# EAGLE library part ADG659 (library analog-devices)
+3 V/+5 V/±5 V CMOS 4-Channel Analog Multiplexers Source: ADG658_659.pdf
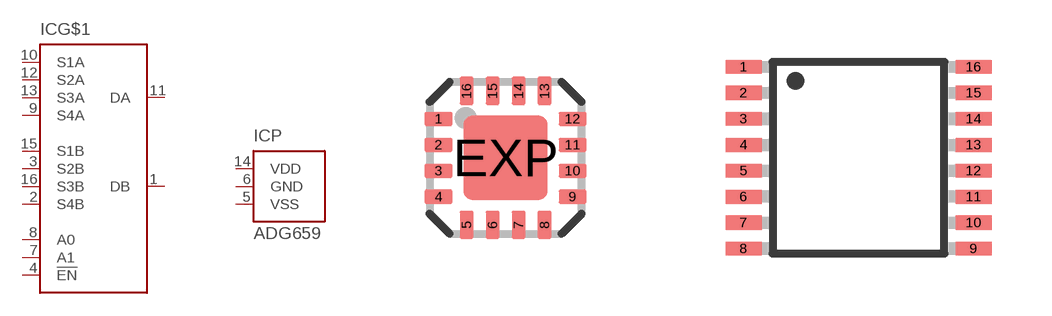
[diagram p136: symbol with the pads of LFCSP16; footprints LFCSP16, TSSOP16]

Designator prefix IC; gates G$1=ADG659 P=PWR-VSS_GND_VDD

## ADG659CP (MPN: ADG659YCPZ; OC_FARNELL: unknown; OC_NEWARK: 74R5857)  [LFCSP16]
1  G$1:DB
2  G$1:S4B
3  G$1:S2B
4  G$1:!EN  in
5  P:VSS  pwr
6  P:GND  pwr
7  G$1:A1  in
8  G$1:A0  in
9  G$1:S4A
10  G$1:S1A
11  G$1:DA
12  G$1:S2A
13  G$1:S3A
14  P:VDD  pwr
15  G$1:S1B
16  G$1:S3B

## ADG659RU (MF: ALTERA CORPORATION; MPN: ADG659YRU-REEL7; OC_FARNELL: 1438948; OC_NEWARK: 50H3058)  [TSSOP16]
1  G$1:S1B
2  G$1:S3B
3  G$1:DB
4  G$1:S4B
5  G$1:S2B
6  G$1:!EN  in
7  P:VSS  pwr
8  P:GND  pwr
9  G$1:A1  in
10  G$1:A0  in
11  G$1:S4A
12  G$1:S1A
13  G$1:DA
14  G$1:S2A
15  G$1:S3A
16  P:VDD  pwr

## ADG659RQ (MF: ALTERA CORPORATION; MPN: ADG659YRQ; OC_FARNELL: 1465237; OC_NEWARK: 59K1460)  [QSOP16]
Pads as for TSSOP16

## Footprint LFCSP16 (pad centres in mm)
16-Terminal Leadless Frame Chip Scale Package [LFCSP] (CP) Source: Analog Devices .. 780914713ADD8704_0.pdf
smd 0.7 x 0.35: 1 -1.675,0.975; 2 -1.675,0.325; 3 -1.675,-0.325; 4 -1.675,-0.975; 9 1.675,-0.975; 10 1.675,-0.325; 11 1.675,0.325; 12 1.675,0.975
smd 0.35 x 0.7: 5 -0.975,-1.675; 6 -0.325,-1.675; 7 0.325,-1.675; 8 0.975,-1.675; 13 0.975,1.675; 14 0.325,1.675; 15 -0.325,1.675; 16 -0.975,1.675
smd 2.1 x 2.1: EXP 0,0

## Footprint TSSOP16 (pad centres in mm)
16-Lead Thin Shrink Small Outline Package [TSSOP] (RU-16) Source: 8x ADG1408_1409.pdf
smd 0.9 x 0.35: 1 -2.875,2.275; 2 -2.875,1.625; 3 -2.875,0.975; 4 -2.875,0.325; 5 -2.875,-0.325; 6 -2.875,-0.975; 7 -2.875,-1.625; 8 -2.875,-2.275; 9 2.875,-2.275; 10 2.875,-1.625; 11 2.875,-0.975; 12 2.875,-0.325; 13 2.875,0.325; 14 2.875,0.975; 15 2.875,1.625; 16 2.875,2.275

## Footprint QSOP16 (pad centres in mm)
16-Lead Shrink Small Outline Package QSOP (RQ-16) Source: ADG658_659.pdf
smd 0.381 x 1.27: 1 -2.223,-2.6; 2 -1.587,-2.6; 3 -0.953,-2.6; 4 -0.318,-2.6; 5 0.318,-2.6; 6 0.953,-2.6; 7 1.587,-2.6; 8 2.223,-2.6; 9 2.223,2.6; 10 1.587,2.6; 11 0.953,2.6; 12 0.318,2.6; 13 -0.318,2.6; 14 -0.953,2.6; 15 -1.587,2.6; 16 -2.223,2.6